# EAGLE library part 22-28-4080 (library 22-28-4080)
MOLEX - 22-28-4080 - CONNECTOR, HEADER, 8POS, 1ROW, 2.54MM
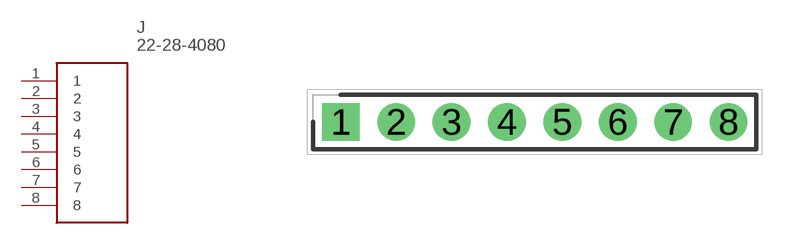
[diagram p0: symbol with the pads of HDRV6W66P0X254_1X6_1524X249X83; footprint HDRV6W66P0X254_1X6_1524X249X83]

Designator prefix J

## 22-28-4080  [HDRV6W66P0X254_1X6_1524X249X83]
1  1  pas
2  2  nc
3  3  pas
4  4  pas
5  5  pas
6  6  pas
7  7  pas
8  8  nc

## Footprint HDRV6W66P0X254_1X6_1524X249X83 (pad centres in mm)
22-28-4060
drill 1.15 pad 1.725 square: 1 0,0
drill 1.15 pad 1.725: 2 2.54,0; 3 5.08,0; 4 7.62,0; 5 10.16,0; 6 12.7,0; 7 15.24,0; 8 17.78,0